# Altium footprint library PCB_V2I2.PcbLib: 27 footprints (part 1 of 2)
Each footprint in its own frame and in the unit in brackets; x right, y up, seen from the top. Pads: shape width x height; smd on the part's side, far side on the other; paste and mask are expansions set on the pad; w line width, h text height; cw(c..) or ccw(c..) is an arc to the next point about the centre after c.
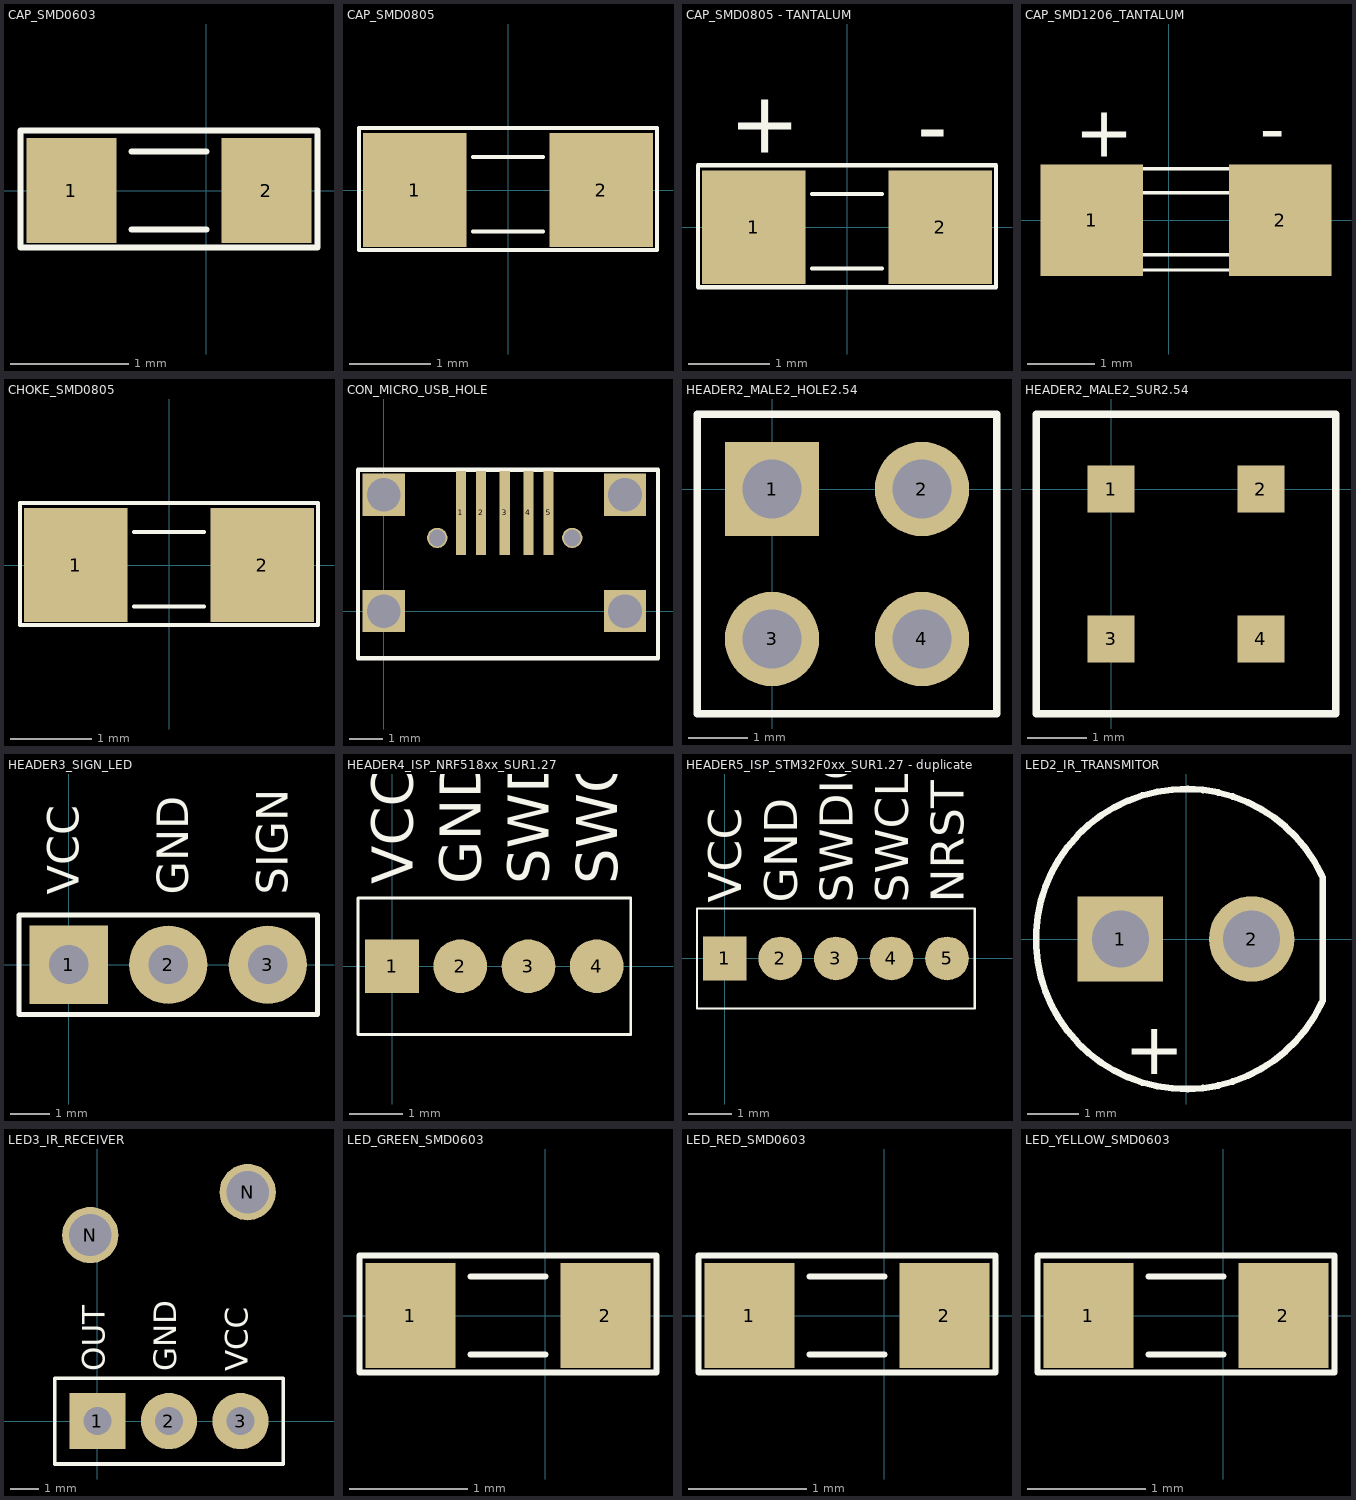
[diagram p0: the footprints below, top view; thin cyan lines are the x and y axes]

## CAP_SMD0603 [mil] "Compoment SMD 60x30mil"
height 50
pads (2):
  rect 30x35 smd: 1(-45,0) 2(20,0)
Top Overlay:
  lines w2: -25,-13 0,-13 ; -25,13 0,13 ; -62,-19 -52.75,-19 -0.25,-19 37,-19 37,20 -62,20 -62,-19
3D body "CircuitWorks-CAPACITOR 0603.step": height 32.68, standoff -1.18, extent -46.49,-16.93 16.5,16.93

## CAP_SMD0805 [mil] "Compoment SMD 80x50mil"
height 50
pads (2):
  rect 50x55 smd: 1(-45,0) 2(45,0)
Top Overlay:
  lines w2: -17,-20 17,-20 ; -17,16 17,16 ; -72,-29 72,-29 72,30 -72,30 -72,-29
3D body "User Library-CAPC2012X___.STEP": height 22.44, standoff 0, extent -39.37,-25 39.37,25

## CAP_SMD0805 - TANTALUM [mil] "Compoment SMD 80x50mil"
height 50
pads (2):
  rect 50x55 smd: 1(-45,0) 2(45,0)
Top Overlay:
  lines w2: -17,-20 17,-20 ; -17,16 17,16 ; -72,-29 -72,30 72,30 72,-29 -72,-29
  text "+" at -57,36 h30
  text "-" at 34,34 h30
3D body "User Library-CAPC2012X___.STEP": height 22.44, standoff 0, extent -39.37,-25 39.37,25

## CAP_SMD1206_TANTALUM [mil] "Compoment SMD 80x50mil"
height 50
pads (2):
  rect 60x65 smd: 1(-45,0) 2(65,0)
Top Overlay:
  lines w2: -17,-20 39,-20 ; -17,16 38,16 ; -72,-29 72,-29 72,30 -72,30 -72,-29
  text "-" at 53,39 h30
  text "+" at -55,37 h30
3D body "CircuitWorks-CAPACITOR 1206.step": height 64.68, standoff -0.68, extent -53,-31.42 72.99,30

## CHOKE_SMD0805 [mil] "Compoment SMD 80x50mil"
height 50
pads (2):
  rect 50x55 smd: 1(-45,0) 2(45,0)
Top Overlay:
  lines w2: -17,-20 17,-20 ; -17,16 17,16 ; -72,-29 -72,30 72,30 72,-29 -72,-29
3D body "User Library-CAPC2012X___.STEP": height 22.44, standoff 0, extent -39.37,-25 39.37,25

## CON_MICRO_USB_HOLE [mm]
pads (11):
  rect 0.3x2.5 smd mask+0.05: 1(2.286,2.91) 2(2.886,2.91) 3(3.586,2.91) 4(4.286,2.91) 5(4.886,2.91)
  rect 1.25x1.25 hole 1 mask+0.05: ""(0,0) ""(0,3.45) ""(7.15,0) ""(7.15,3.45)
  round 0.6 hole 0.5 mask+0.05: ""(1.586,2.17) ""(5.586,2.17)
Top Overlay:
  lines w0.127: -0.762,-1.397 -0.762,4.191 8.128,4.191 8.128,-1.397 -0.762,-1.397
3D body "User Library-10104111.STEP": height 2.77, standoff -0.3, extent -0.717,-1.45 8.083,4.176

## HEADER2_MALE2_HOLE2.54 [mm] "HEADER, SINGLE, DISTANCE = 100mil"
pads (4):
  rect 1.6x1.6 hole 1: 1(0,0)
  round 1.6 hole 1: 2(2.54,0) 3(0,-2.54) 4(2.54,-2.54)
Top Overlay:
  lines w0.127: -1.27,-3.81 -1.27,1.27 3.81,1.27 3.81,-3.81 -1.27,-3.81
3D body "User Library-Header1x2.STEP": height 8.17, standoff -2.81, extent -1.27,-1.27 3.81,1.27
3D body "User Library-Header1x2.STEP": height 8.17, standoff -2.81, extent -1.27,-3.81 3.81,-1.27

## HEADER2_MALE2_SUR2.54 [mm] "HEADER, SINGLE, DISTANCE = 100mil"
pads (4):
  rect 0.8x0.8 smd: 1(0,0) 2(2.54,0) 3(0,-2.54) 4(2.54,-2.54)
Top Overlay:
  lines w0.127: -1.27,-3.81 -1.27,1.27 3.81,1.27 3.81,-3.81 -1.27,-3.81
3D body "User Library-Header1x2.STEP": height 8.17, standoff -2.81, extent -1.27,-1.27 3.81,1.27
3D body "User Library-Header1x2.STEP": height 8.17, standoff -2.81, extent -1.27,-3.81 3.81,-1.27

## HEADER3_SIGN_LED [mm] "HEADER, SINGLE, DISTANCE = 100mil"
pads (3):
  rect 2x2 hole 1: 1(0,0)
  round 2 hole 1: 2(2.54,0) 3(5.08,0)
Top Overlay:
  lines w0.127: -1.27,-1.27 -1.27,1.27 6.35,1.27 6.35,-1.27 -1.27,-1.27
  text "SIGN" at 5.588,1.778 h0.8
  text "GND" at 3.048,1.778 h0.8
  text "VCC" at 0.254,1.778 h0.8
3D body "User Library-Header_Male_3Pin.STEP": height 8.54, standoff -3, extent -1.27,-1.27 6.35,1.22

## HEADER4_ISP_NRF518xx_SUR1.27 [mm] "HEADER, SINGLE, DISTANCE = 100mil"
pads (4):
  rect 1x1 smd: 1(0,0)
  round 1 smd: 2(1.27,0) 3(2.54,0) 4(3.81,0)
Top Overlay:
  lines w0.051: -0.635,-1.27 4.445,-1.27 4.445,1.27 -0.635,1.27 -0.635,-1.27
  text "SWCLK" at 4.191,1.524 h0.76
  text "SWDIO" at 2.921,1.524 h0.76
  text "GND" at 1.651,1.524 h0.76
  text "VCC" at 0.381,1.524 h0.76
3D body "User Library-PinHeader1_27_2.STEP": height 5, standoff -2.3, extent 1.905,-1.2 4.445,1.2
3D body "User Library-PinHeader1_27_2.STEP": height 5, standoff -2.3, extent -0.635,-1.19 1.905,1.21

## HEADER5_ISP_STM32F0xx_SUR1.27 - duplicate [mm] "HEADER, SINGLE, DISTANCE = 100mil"
pads (5):
  rect 1x1 smd: 1(0,0)
  round 1 smd: 2(1.27,0) 3(2.54,0) 4(3.81,0) 5(5.08,0)
Top Overlay:
  lines w0.051: -0.635,-1.143 -0.635,1.143 5.715,1.143 5.715,-1.143 -0.635,-1.143
  text "VCC" at 0.381,1.27 h0.76
  text "GND" at 1.651,1.27 h0.76
  text "SWDIO" at 2.921,1.27 h0.76
  text "SWCLK" at 4.191,1.27 h0.76
  text "NRST" at 5.461,1.27 h0.76
3D body "User Library-PinHeader1_27_2.STEP": height 5, standoff -2.3, extent -0.635,-1.2 1.905,1.2
3D body "User Library-PinHeader1_27_2.STEP": height 5, standoff -2.3, extent 1.905,-1.2 4.445,1.2

## LED2_IR_TRANSMITOR [mil] "LED phi 5mm"
height 649.61
pads (2):
  rect 65x65 hole 43.31: 1(-50,0)
  round 65 hole 43.31: 2(50,0)
Top Overlay:
  lines w5: 103.49,-48.23 cw(c0,0) 103.49,48.23 ; 104,-47 104,46.9
  text "+" at -47,-103 h40
3D body "User Library-LED5MM.step": height 496.06, standoff -118.11, extent -116.14,-118.13 116.14,114.15

## LED3_IR_RECEIVER [mm] "HEADER, SINGLE, DISTANCE = 100mil"
pads (5):
  rect 2x2 hole 1: 1(0,0)
  round 2 hole 1: 2(2.54,0) 3(5.08,0)
  round 2 hole 1.5: N(-0.254,6.604) N(5.334,8.128)
Top Overlay:
  lines w0.127: -1.524,-1.524 6.604,-1.524 6.604,1.524 -1.524,1.524 -1.524,-1.524
  text "OUT" at 0.254,1.778 h0.8
  text "GND" at 2.794,1.778 h0.8
  text "VCC" at 5.334,1.778 h0.8
3D body "User Library-GP1UE26.step": height 7.1, standoff -3.6, extent -0.704,-0.328 6.096,9.472

## LED_GREEN_SMD0603 [mil] "Compoment SMD 60x30mil"
height 50
pads (2):
  rect 30x35 smd: 1(-45,0) 2(20,0)
Top Overlay:
  lines w2: -25,-13 0,-13 ; -25,13 0,13 ; -62,-19 -52.75,-19 -0.25,-19 37,-19 37,20 -62,20 -62,-19
3D body "User Library-LED_0603_G.STEP": height 23.62, standoff -0.08, extent -46.49,-15.74 16.51,15.75

## LED_RED_SMD0603 [mil] "Compoment SMD 60x30mil"
height 50
pads (2):
  rect 30x35 smd: 1(-45,0) 2(20,0)
Top Overlay:
  lines w2: -25,-13 0,-13 ; -25,13 0,13 ; -62,-19 -62,20 37,20 37,-19 -0.25,-19 -52.75,-19 -62,-19
3D body "User Library-LED_0603_R.STEP": height 23.62, standoff -0.08, extent -46.49,-15.74 16.5,15.75

## LED_YELLOW_SMD0603 [mil] "Compoment SMD 60x30mil"
height 50
pads (2):
  rect 30x35 smd: 1(-45,0) 2(20,0)
Top Overlay:
  lines w2: -25,-13 0,-13 ; -25,13 0,13 ; -62,-19 -62,20 37,20 37,-19 -0.25,-19 -52.75,-19 -62,-19
3D body "User Library-LED_0603_Y.STEP": height 23.62, standoff -0.08, extent -46.49,-15.74 16.51,15.75